# EAGLE library part X37 (library connectors)
Connector 37 pins
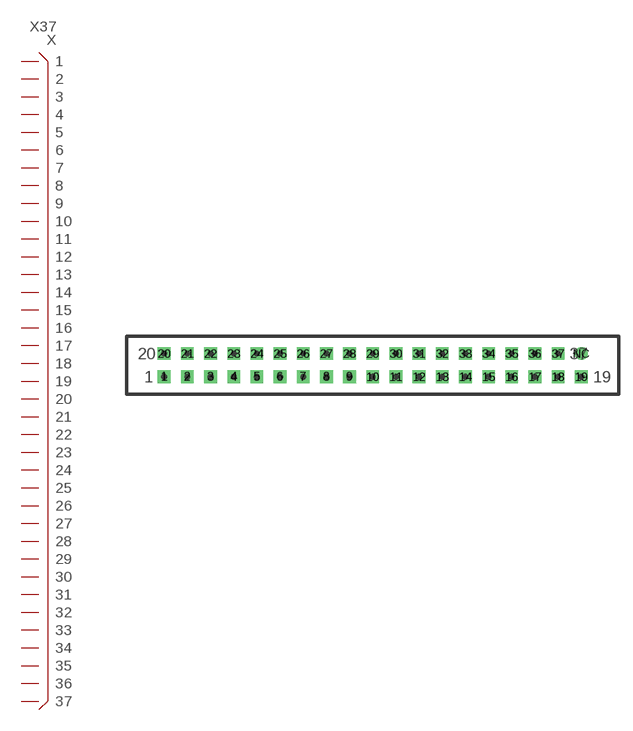
[diagram p64: symbol with the pads of X37-DSUBRIBBON; footprint X37-DSUBRIBBON]

Designator prefix X

## X37-DRIB  [X37-DSUBRIBBON]
1  1
2  2
3  3
4  4
5  5
6  6
7  7
8  8
9  9
10  10
11  11
12  12
13  13
14  14
15  15
16  16
17  17
18  18
19  19
20  20
21  21
22  22
23  23
24  24
25  25
26  26
27  27
28  28
29  29
30  30
31  31
32  32
33  33
34  34
35  35
36  36
37  37

## Footprint X37-DSUBRIBBON (pad centres in mm)
Connector 37 pins, reduced pads, for D-Sub connections with ribbon cable
drill 0.889 pad 1.397 square: 1 -22.86,-1.27; 2 -20.32,-1.27; 3 -17.78,-1.27; 4 -15.24,-1.27; 5 -12.7,-1.27; 6 -10.16,-1.27; 7 -7.62,-1.27; 8 -5.08,-1.27; 9 -2.54,-1.27; 10 0,-1.27; 11 2.54,-1.27; 12 5.08,-1.27; 13 7.62,-1.27; 14 10.16,-1.27; 15 12.7,-1.27; 16 15.24,-1.27; 17 17.78,-1.27; 18 20.32,-1.27; 19 22.86,-1.27; 20 -22.86,1.27; 21 -20.32,1.27; 22 -17.78,1.27; 23 -15.24,1.27; 24 -12.7,1.27; 25 -10.16,1.27; 26 -7.62,1.27; 27 -5.08,1.27; 28 -2.54,1.27; 29 0,1.27; 30 2.54,1.27; 31 5.08,1.27; 32 7.62,1.27; 33 10.16,1.27; 34 12.7,1.27; 35 15.24,1.27; 36 17.78,1.27; 37 20.32,1.27
drill 0.889 pad 1.397 round: NC 22.86,1.27